# Altium schematic symbol library Molex Microfit Schematic Lib.SchLib: 7 symbols
Pins are listed as number, name and electrical type; pins without a type are passive.

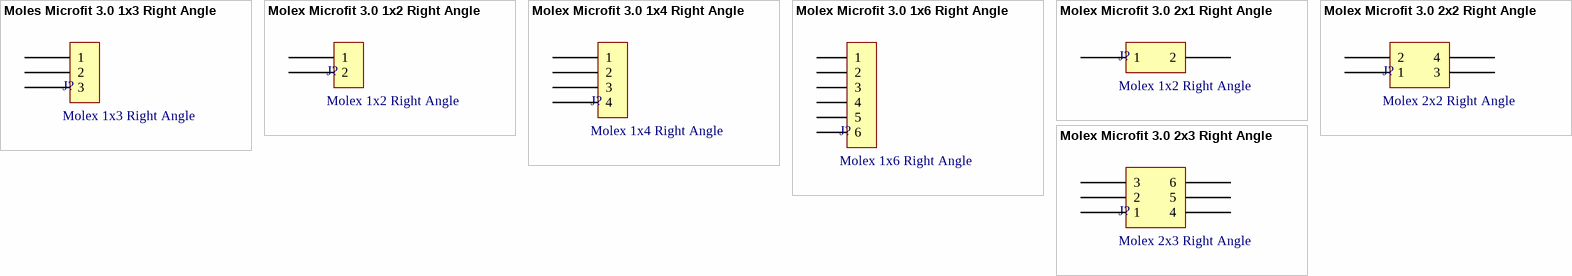
[diagram p0: symbols Moles Microfit 3.0 1x3 Right Angle to Molex Microfit 3.0 2x3 Right Angle]

## Moles Microfit 3.0 1x3 Right Angle
designator J?, comment Molex 1x3 Right Angle
MPN: 436500300; Manufacturer: Molex; Value: Molex 1x3 Right Angle; DNI: DNI; DNP: DNP
footprint Molex Microfit 3.0 1x3 Right Angle
pins: 1, 2, 3

## Molex Microfit 3.0 1x2 Right Angle
designator J?, comment Molex 1x2 Right Angle
MPN: 0436500200; Manufacturer: Molex; Value: Molex 1x2 Right Angle; DNI: DNI; DNP: DNP
footprint Molex Microfit 3.0 1x2 Right Angle
pins: 1, 2

## Molex Microfit 3.0 1x4 Right Angle
designator J?, comment Molex 1x4 Right Angle
MPN: 436500400; Manufacturer: Molex; Value: Molex 1x4 Right Angle; DNI: DNI; DNP: DNP
footprint Molex Microfit 3.0 1x4 Right Angle
pins: 1, 2, 3, 4

## Molex Microfit 3.0 1x6 Right Angle
designator J?, comment Molex 1x6 Right Angle
3.00mm Pitch Micro-Fit 3.0 Header, Surface Mount Compatible, Single Row, Right Angle, with Snap-in Plastic Peg PCB Lock, 6 Circuits, Tin (Sn) Plating, Glow Wire Compatible; MP: 43650-0600; Package: None; SnapEDA_Link: https://www.snapeda.com/parts/43650-0600/Molex/view-part/?ref=snap; MF: Molex; Purchase-URL: https://pricing.snapeda.com/search/part/43650-0600/?ref=eda; Check_prices: https://www.snapeda.com/parts/43650-0600/Molex/view-part/?ref=eda; Price: None; Availability: In Stock; Value: Molex 1x6 Right Angle; DNI: DNI; DNP: DNP
footprint Molex Microfit 3.0 1x6 Right Angle
pins: 1, 2, 3, 4, 5, 6

## Molex Microfit 3.0 2x1 Right Angle
designator J?, comment Molex 1x2 Right Angle
MPN: 0430450201; Manufacturer: Molex; Value: Molex 1x2 Right Angle; DNI: DNI; DNP: DNP
footprint Molex Microfit 3.0 2x1 Right Angle
pins: 1, 2

## Molex Microfit 3.0 2x2 Right Angle
designator J?, comment Molex 2x2 Right Angle
MPN: 0430450401; DNI: DNI; DNP: DNP; Value: Molex 2x2 Right Angle
footprint Molex Microfit 3.0 2x2 Right Angle
pins: 1, 2, 3, 4

## Molex Microfit 3.0 2x3 Right Angle
designator J?, comment Molex 2x3 Right Angle
MPN: 0430450601; DNI: DNI; DNP: DNP; Value: Molex 2x3 Right Angle
footprint Molex Microfit 3.0 2x3 Right Angle (6 Pos Header Micro-Fit)
pins: 1, 2, 3, 4, 5, 6